# Altium schematic symbol library AnalogDevices.SchLib: 7 symbols
Pins are listed as number, name and electrical type; pins without a type are passive.

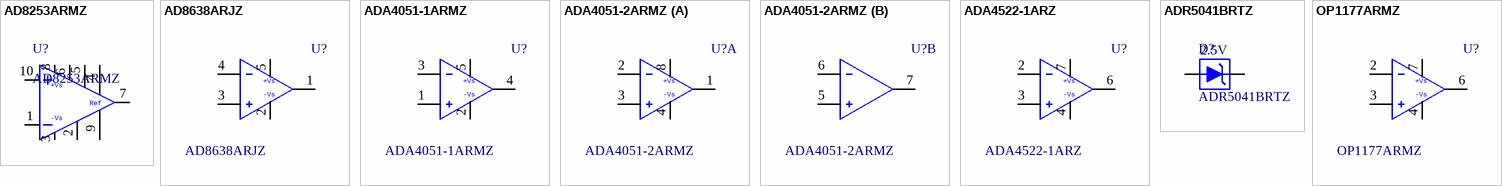
[diagram p0: symbols AD8253ARMZ to OP1177ARMZ]

## AD8253ARMZ
designator U?
Instrumentation Amplifiers High Speed Programmable High Gain In-Amp; Manufacturer: Analog Devices Inc; PartNumber: AD8253ARMZ; Supplier 1: Digi-Key; Supplier 2: Mouser; Supplier Part Number 1: 505-AD8253ARMZ-R7DKR-ND; Supplier Part Number 2: 584-AD8253ARMZ-R7
simulation model AD8253 (Model Description)
footprint MSOP10
pins: 1 - IN, 2 DGND, 3 -Vs, 4 A0, 5 A1, 6 WR, 7 OUT, 8 +Vs, 9 REF, 10 + IN
text: Ref

## AD8638ARJZ
designator U?
16V Auto-Zero CMOS Amplifier; Manufacturer: Analog Devices; Supplier 1: Digi-Key; Supplier 2: Mouser; Supplier Part Number 1: 505-AD8638ARJZ-REEL7DKR-ND; Supplier Part Number 2: 584-AD8638ARJZ-R7; PartNumber: AD8638ARJZ
simulation model AD8638 (Model Description)
footprint SOT23-5 (SOT23, 5-Leads, Body 3.13x2.80mm, Pitch 0.95mm, IPC Medium Density)
pins: 1 OUT, 2 -Vs (power), 3 +IN, 4 -IN, 5 +VS (power)
text: +Vs

## ADA4051-1ARMZ
designator U?
Precision Amplifier Micro Power Auto Zero; Manufacturer: Analog Devices; Supplier 1: Digi-Key; Supplier 2: Mouser; Supplier Part Number 1: 505-ADA4051-2ARMZ-ND; Supplier Part Number 2: 584-ADA4051-2ARMZ; PartNumber: ADA4051-1ARMZ
simulation model ADA4051 (Model Description)
footprint MSOP8
pins: 1 +IN, 2 -Vs (power), 3 -IN, 4 OUTA, 5 +VS (power)
text: +Vs

## ADA4051-2ARMZ
designator U?
Dual  Precision Amplifier Micro Power Auto Zero; Manufacturer: Analog Devices; Supplier 1: Digi-Key; Supplier 2: Mouser; Supplier Part Number 1: 505-ADA4051-2ARMZ-ND; Supplier Part Number 2: 584-ADA4051-2ARMZ; PartNumber: ADA4051-2ARMZ
part A pins: 1 OUTA, 2 -INA, 3 +INA, 4 -Vs (power), 8 +VS (power)
part B pins: 5 +INB, 6 -INB, 7 OUTB
part A text: +Vs

## ADA4522-1ARZ
designator U?
55V Low Noise Zero Drift Operational Amplifier; Manufacturer: Analog Devices; Supplier 1: Digi-Key; Supplier 2: Mouser; Supplier Part Number 1: 505-ADA4522-1ARZ-ND; Supplier Part Number 2: 584-ADA4522-1ARZ; PartNumber: ADA4522-1ARZ
simulation model ADA4522 (Model Description)
pins: 2 -IN, 3 +IN, 4 -Vs (power), 6 OUT, 7 +VS (power)
text: +Vs

## ADR5041BRTZ
designator D?  Voltage: 2.5V
2.5V Shunt Voltage Reference; Manufacturer: Analog Devices; PartNumber: ADR5041BRTZ; Supplier 1: Digi-Key; Supplier 2: Mouser; Supplier Part Number 1: 505-ADR5041BRTZ-REEL7CT-ND; Supplier Part Number 2: 584-ADR5041BRTZ-R7
simulation model ADR5041__VOLTAGE_REFERENCE__1__2 (Model Description)
pins: 1 K, 2 A

## OP1177ARMZ
designator U?
Precision low noise operational amplifier; Manufacturer: Analog Devices; Supplier 1: Digi-Key; Supplier 2: Mouser; Supplier Part Number 1: 505-OP1177ARMZ-ND; Supplier Part Number 2: 584-OP1177ARMZ; PartNumber: OP1177ARMZ
simulation model OPAx189 (Model Description)
pins: 2 -IN, 3 +IN, 4 -Vs (power), 6 OUT, 7 +VS (power)
text: +Vs